# Altium footprint library MHQ1005PR51GT000.PcbLib: 3 footprints
Each footprint in its own frame and in the unit in brackets; x right, y up, seen from the top. Pads: shape width x height; smd on the part's side, far side on the other; paste and mask are expansions set on the pad; w line width, h text height; cw(c..) or ccw(c..) is an arc to the next point about the centre after c.
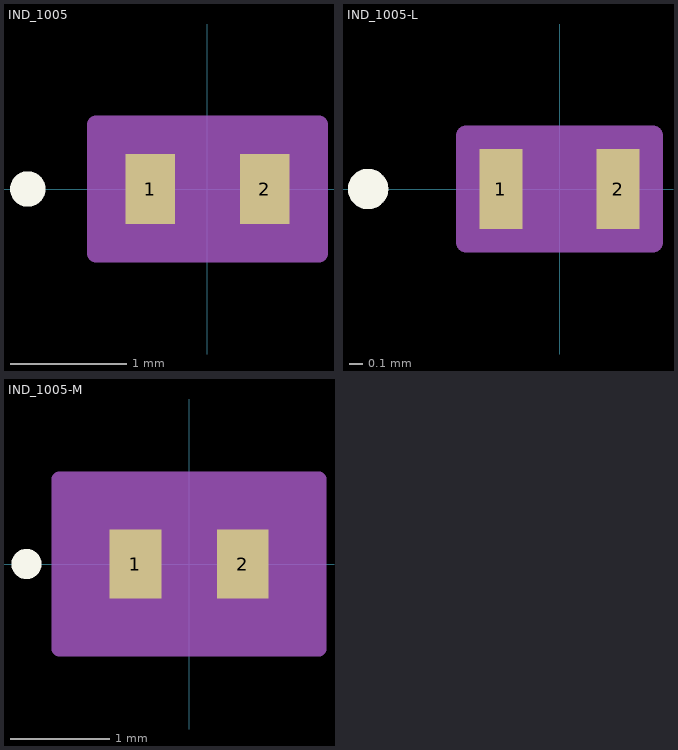
[diagram p0: the footprints below, top view; thin cyan lines are the x and y axes]

## IND_1005 [mm]
pads (2):
  rect 0.423x0.6 smd paste+0 mask+0: 1(-0.492,0) 2(0.492,0)
Top Overlay:
  circle w0.152: c-1.541,0 r0.076
Mechanical 13:
  circle w0: c-0.365,0 r0.076
  lines w0.025: -0.5,-0.3 -0.5,0.3 ; -0.5,-0.3 -0.28,-0.3 -0.28,0.3 -0.5,0.3 ; -0.5,-0.3 0.5,-0.3 ; -0.5,-0.3 -0.5,0.3 ; -0.5,0.3 0.5,0.3 ; 0.5,-0.3 0.28,-0.3 0.28,0.3 0.5,0.3 ; 0.5,-0.3 0.5,0.3 ; 0.5,-0.3 0.5,0.3
Mechanical 15:
  region: 0.957,-0.554 -0.957,-0.554 -0.957,0.554 0.957,0.554
  lines w0.152: -0.957,-0.554 -0.957,0.554 0.957,0.554 0.957,-0.554 -0.957,-0.554
3D body: height 0.25, standoff 0, extent 0,0 0.254,0.254

## IND_1005-L [mm]
pads (2):
  rect 0.322x0.6 smd paste+0 mask+0: 1(-0.441,0) 2(0.441,0)
Top Overlay:
  circle w0.152: c-1.44,0 r0.076
Mechanical 13:
  circle w0: c-0.314,0 r0.076
  lines w0.025: -0.5,-0.3 -0.5,0.3 ; -0.5,-0.3 -0.28,-0.3 -0.28,0.3 -0.5,0.3 ; -0.5,-0.3 0.5,-0.3 ; -0.5,-0.3 -0.5,0.3 ; -0.5,0.3 0.5,0.3 ; 0.5,-0.3 0.28,-0.3 0.28,0.3 0.5,0.3 ; 0.5,-0.3 0.5,0.3 ; 0.5,-0.3 0.5,0.3
Mechanical 15:
  region: 0.703,-0.402 -0.703,-0.402 -0.703,0.402 0.703,0.402
  lines w0.152: -0.703,-0.402 -0.703,0.402 0.703,0.402 0.703,-0.402 -0.703,-0.402
3D body: height 0.25, standoff 0, extent 0,0 0.254,0.254

## IND_1005-M [mm]
pads (2):
  rect 0.525x0.702 smd paste+0 mask+0: 1(-0.542,0) 2(0.542,0)
Top Overlay:
  circle w0.152: c-1.643,0 r0.076
Mechanical 13:
  circle w0: c-0.415,0 r0.076
  lines w0.025: -0.5,-0.3 -0.5,0.3 ; -0.5,-0.3 0.5,-0.3 ; -0.5,-0.3 -0.28,-0.3 -0.28,0.3 -0.5,0.3 ; -0.5,-0.3 -0.5,0.3 ; -0.5,0.3 0.5,0.3 ; 0.5,-0.3 0.5,0.3 ; 0.5,-0.3 0.5,0.3 ; 0.5,-0.3 0.28,-0.3 0.28,0.3 0.5,0.3
Mechanical 15:
  region: 1.313,-0.859 -1.313,-0.859 -1.313,0.859 1.313,0.859
  lines w0.152: -1.313,-0.859 1.313,-0.859 1.313,0.859 -1.313,0.859 -1.313,-0.859
3D body: height 0.25, standoff 0, extent 0,0 0.254,0.254